# Altium footprint library Components.PcbLib: 86 footprints (part 4 of 6)
Each footprint in its own frame and in the unit in brackets; x right, y up, seen from the top. Pads: shape width x height; smd on the part's side, far side on the other; paste and mask are expansions set on the pad; w line width, h text height; cw(c..) or ccw(c..) is an arc to the next point about the centre after c.
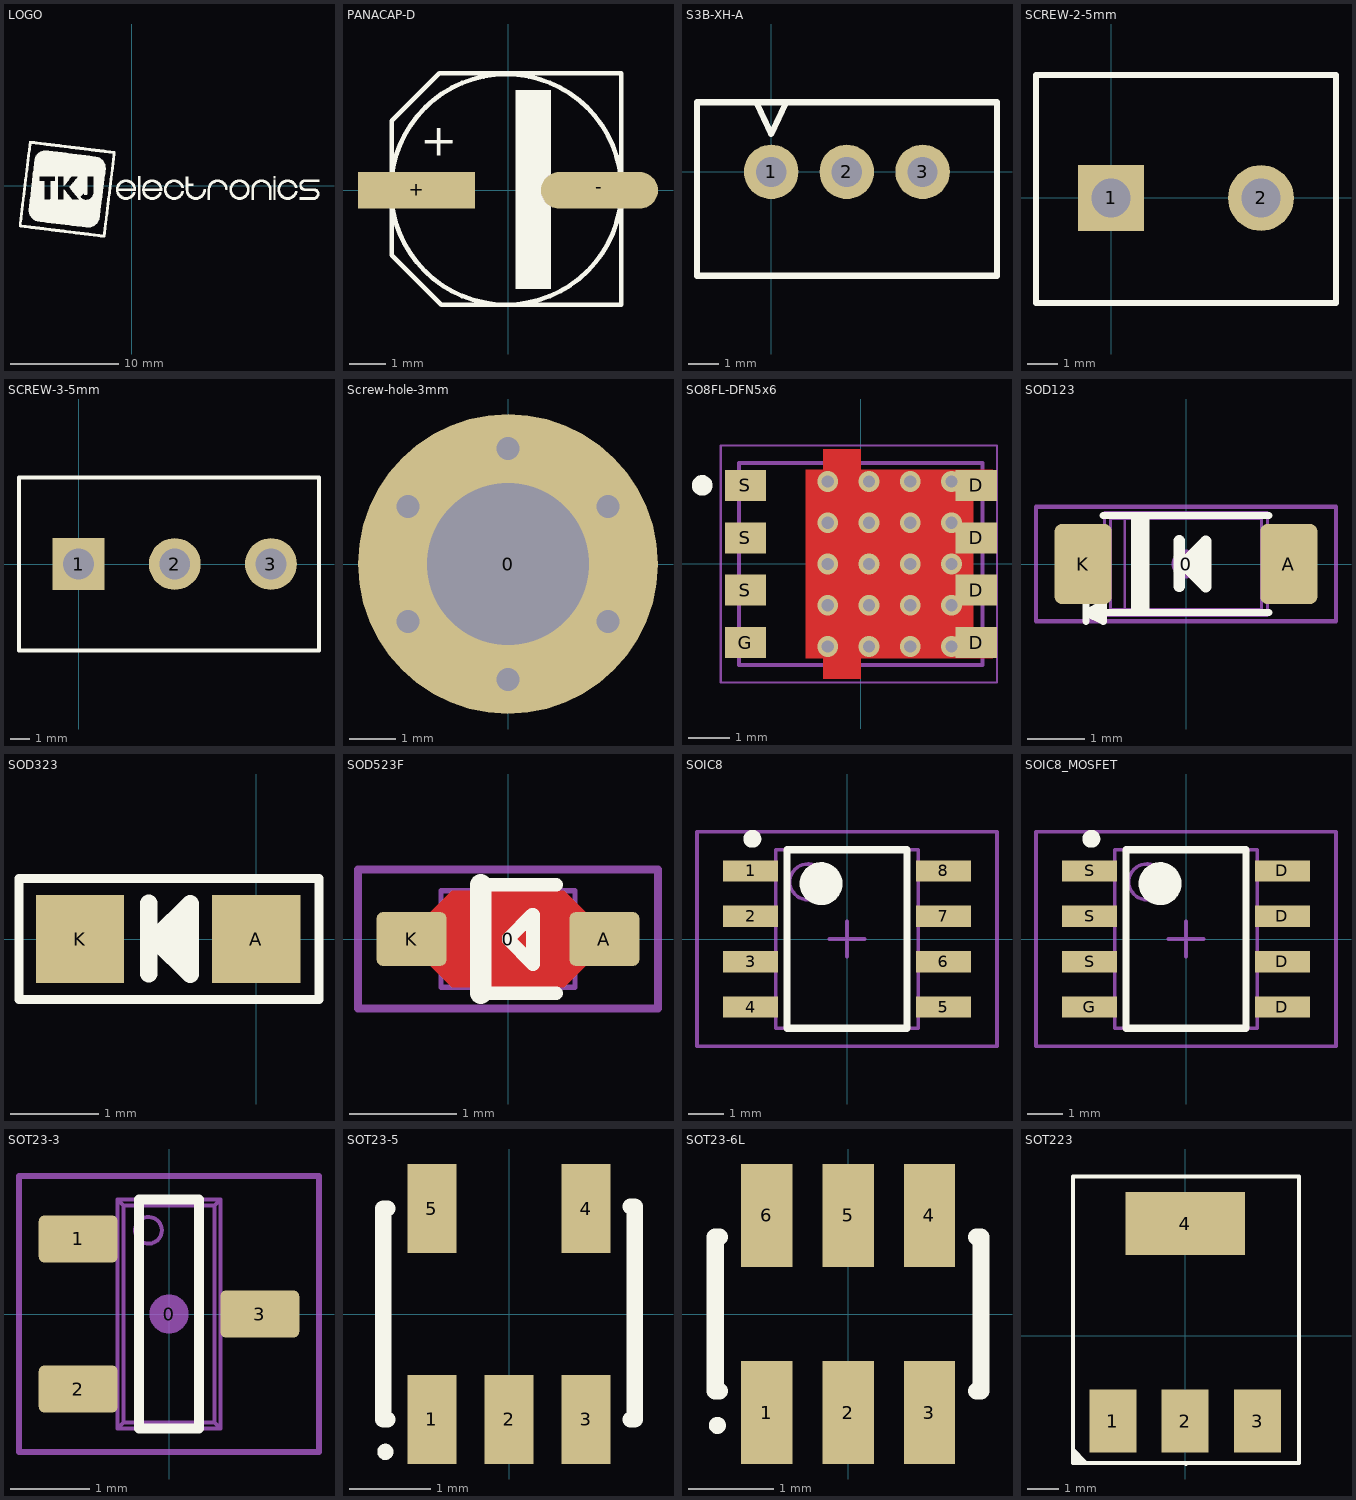
[diagram p3: the footprints below, top view; thin cyan lines are the x and y axes]

## LOGO [mm]
Top Overlay:
  drawing of 2458 lines, arcs and shapes, not listed

## PANACAP-D [mm]
pads (2):
  rect 3.2x1 smd: +(-2.5,0)
  oval 3.2x1 smd: -(2.5,0)
Top Overlay:
  circle w0.127: c-0.05,0.025 r3.15
  rectangle: 0.2,-2.7 1.175,2.75
  lines w0.127: -3.175,-1.775 -3.175,1.9 -1.875,3.2 3.1,3.2 3.1,-3.125 -0.05,-3.125 -1.825,-3.125 -3.175,-1.775
  text "+" at -2.4,0.95 h0.89
3D body: height 0.25, standoff 0, extent -3.85,-0.242 -2.349,0.266
3D body: height 0.38, standoff 0.05, extent -3.225,-3.1 3.095,3.225
3D body: height 0.25, standoff 0, extent 2.147,-0.242 3.75,0.266
3D body: height 5.61, standoff 0.03, extent 1.397,-2.172 2.54,2.209
3D body: height 5.59, standoff 0, extent -3.2,-3.088 3.075,3.2

## S3B-XH-A [mm]
pads (3):
  round 1.8 hole 1: 1(0,0) 2(2.5,0) 3(5,0)
Top Overlay:
  lines w0.2: -0.5,2.3 0,1.25 0.5,2.3 ; -2.45,-3.429 7.458,-3.429 7.458,2.3 -2.45,2.3 -2.45,-3.429
3D body: height 7, standoff -3.4, extent -2.407,-3.429 7.493,2.321

## SCREW-2-5mm [mm]
pads (2):
  rect 2.2x2.2 hole 1.3: 1(0,0)
  round 2.2 hole 1.3: 2(5,0)
Top Overlay:
  lines w0.203: -2.5,-3.5 7.5,-3.5 7.5,4.1 -2.5,4.1 -2.5,-3.5
3D body: height 9.8, standoff -3.9, extent -2.5,-3.1 7.5,4.5

## SCREW-3-5mm [mm]
pads (3):
  rect 2.7x2.7 hole 1.6: 1(0,0)
  round 2.7 hole 1.6: 2(5,0) 3(10,0)
Top Overlay:
  lines w0.203: -3.1,-4.5 12.5,-4.5 12.5,4.5 -3.1,4.5 -3.1,-4.5
3D body: height 14.1, standoff -3.5, extent -2.8,-5.2 12.5,5

## Screw-hole-3mm [mm] "M3 screw"
pads (1):
  round 6.5 hole 3.5 mask+0: 0(0,0)
via -2.165,1.25 diameter 1 hole 0.5
via -2.165,-1.25 diameter 1 hole 0.5
via 0,-2.5 diameter 1 hole 0.5
via 2.165,-1.25 diameter 1 hole 0.5
via 2.165,1.25 diameter 1 hole 0.5
via 0,2.5 diameter 1 hole 0.5

## SO8FL-DFN5x6 [mm] "DFN, 5-Leads, Body 5.9x4.9mm, Pitch 1.27mm"
height 1.1
pads (8):
  rect 1x0.75 smd: D(2.795,-1.905) D(2.795,-0.635) D(2.795,0.635) D(2.795,1.905) G(-2.795,-1.905) S(-2.795,-0.635) S(-2.795,0.635) S(-2.795,1.905)
via 2.198,0 diameter 0.5 hole 0.3
via 2.198,1 diameter 0.5 hole 0.3
via 2.198,2 diameter 0.5 hole 0.3
via 2.198,-2 diameter 0.5 hole 0.3
via 2.198,-1 diameter 0.5 hole 0.3
via -0.803,0 diameter 0.5 hole 0.3
via -0.803,2 diameter 0.5 hole 0.3
via -0.803,-1 diameter 0.5 hole 0.3
via -0.803,-2 diameter 0.5 hole 0.3
via -0.803,1 diameter 0.5 hole 0.3
via 1.198,-1 diameter 0.5 hole 0.3
via 1.198,-2 diameter 0.5 hole 0.3
via 1.198,2 diameter 0.5 hole 0.3
via 1.198,1 diameter 0.5 hole 0.3
via 1.198,0 diameter 0.5 hole 0.3
via 0.198,1 diameter 0.5 hole 0.3
via 0.198,-2 diameter 0.5 hole 0.3
via 0.198,-1 diameter 0.5 hole 0.3
via 0.198,2 diameter 0.5 hole 0.3
via 0.198,0 diameter 0.5 hole 0.3
Top Layer:
  region: -0.905,-2.775 -0.905,-2.28 -1.33,-2.28 -1.33,2.28 -0.905,2.28 -0.905,2.775 0,2.775 0,2.28 3.2,2.28 3.2,1.53 2.725,1.53 2.725,-1.53 3.2,-1.53 3.2,-2.28 0,-2.28 0,-2.775
Top Overlay:
  circle w0.25: c-3.845,1.905 r0.125
Mechanical 13:
  lines w0.1: -2.95,-2.45 2.95,-2.45 2.95,2.45 -2.95,2.45 -2.95,-2.45
Mechanical 15:
  lines w0.05: -3.395,-2.875 -3.395,2.875 3.3,2.875 3.3,-2.875 -3.395,-2.875
  lines w0.1: -0.5,0 0.5,0 ; 0,-0.5 0,0.5
3D body: height 1.1, standoff 0, extent -2.95,-2.45 2.95,2.45

## SOD123 [mm] "SOD-123; 2 Leads; Body 2.7 x 1.6 mm, (LxW)"
height 1.35
pads (3):
  round 0.508 on Mech15: 0(0,0)
  rrect25% 1x1.4 smd: A(1.8,0) K(-1.8,0)
Top Overlay:
  lines w0.127: -1.75,-1 -1.75,-0.7 ; -1.45,0.85 1.45,0.85 ; -0.9,-0.85 -0.9,0.85 ; -0.8,-0.85 -0.8,0.85 ; -0.7,-0.85 -0.7,0.85 ; 1.448,-0.85 -1.45,-0.85 -1.75,-0.85 ; -1.75,-0.85 -1.45,-0.7 -1.45,-1 -1.75,-0.85
  lines w0.2: -0.119,-0.394 -0.119,0.406 ; 0.149,-0.2 0.149,0.2 ; -0.051,0 0.349,0.4 0.349,-0.4 -0.051,0
Mechanical 13:
  lines w0.05: -1.766,-0.308 -1.766,0.308 ; -1.707,-0.308 -1.707,0.308 ; -1.517,-0.308 -1.517,0.308 ; -1.425,-0.308 -1.95,-0.308 -1.95,0.308 -1.425,0.308 ; 1.425,-0.308 1.95,-0.308 1.95,0.308 1.425,0.308 ; 1.517,-0.308 1.517,0.308 ; 1.707,-0.308 1.707,0.308 ; 1.766,-0.308 1.766,0.308 ; -1.425,-0.9 -1.425,0.9 ; -1.425,-0.9 -1.323,-0.798 ; -1.425,-0.9 1.425,-0.9 ; -1.425,0.9 1.425,0.9 ; -1.425,0.9 -1.323,0.798 ; -1.323,-0.798 -1.323,0.798 ; -1.323,-0.798 -1.072,-0.798 ; -1.323,0.798 -1.072,0.798 ; -1.072,-0.798 -1.072,0.798 ; -1.072,-0.798 1.322,-0.797 ; -1.072,0.798 1.322,0.797 ; 1.322,-0.797 1.425,-0.9 ; 1.322,-0.797 1.322,0.797 ; 1.322,0.797 1.425,0.9 ; 1.425,-0.9 1.425,0.9
Mechanical 15:
  lines w0.076: -2.625,-1 -2.625,1 2.625,1 2.625,-1 -2.625,-1
3D body: height 1.18, standoff 0, extent -1.95,-0.9 1.95,0.9

## SOD323 [mm]
pads (2):
  rect 1x1 smd: A(0,0) K(-2,0)
Top Overlay:
  lines w0.102: -2.692,-0.686 0.711,-0.686 0.711,0.686 -2.692,0.686 -2.692,-0.686
  lines w0.2: -1.219,-0.394 -1.219,0.406 ; -0.951,-0.2 -0.951,0.2 ; -1.151,0 -0.751,-0.4 -0.751,0.4 -1.151,0
3D body: height 0.25, standoff 0, extent -0.175,-0.2 0.175,0.15
3D body: height 0.25, standoff 0, extent -2.225,-0.175 -1.875,0.175
3D body: height 0.69, standoff 0, extent -2.025,-0.65 0,0.65
3D body: height 0.74, standoff 0.71, extent -1.9,-0.475 -1.725,0.5

## SOD523F [mm] "SOD-523F; 2 Leads; Body 1.3 x 0.9 mm, (LxW)"
height 0.7
pads (3):
  round 0.508 on Mech15: 0(0,0)
  rrect20% 0.65x0.5 smd: A(0.9,0) K(-0.9,0)
Top Layer:
  pour cut-out: -0.725,-0.25 -0.725,0.25 -0.525,0.45 0.525,0.45 0.725,0.25 0.725,-0.25 0.525,-0.45 -0.525,-0.45
Top Overlay:
  lines w0.127: -0.254,-0.508 0.45,-0.508 ; -0.254,0.508 0.45,0.508 ; 0.008,-0.008 0.233,-0.233 0.233,0.225 ; 0.008,0.008 0.225,0.225
  lines w0.2: -0.254,-0.508 -0.254,0.508
Mechanical 13:
  lines w0.05: -0.625,-0.175 -0.625,0.175 ; -0.625,-0.175 -0.625,-0.45 0.625,-0.45 0.625,-0.175 ; -0.625,-0.175 -0.85,-0.175 -0.85,0.175 -0.625,0.175 ; -0.625,0.175 -0.625,0.45 0.625,0.45 0.625,0.175 ; 0.625,-0.175 0.625,0.175 ; 0.625,-0.175 0.85,-0.175 0.85,0.175 0.625,0.175
  lines w0.127: -0.425,-0.275 -0.425,0.275
Mechanical 15:
  lines w0.076: -1.4,-0.65 1.4,-0.65 1.4,0.65 -1.4,0.65 -1.4,-0.65
3D body: height 0.7, standoff 0, extent -0.85,-0.45 0.85,0.45

## SOIC8 [mm] "8-Pin Plastic Narrow Body Small Outline Integrated Circuit 1.27 mm Pitch, IPC Low Density"
height 1.76
pads (8):
  rect 1.55x0.6 smd: 1(-2.7,1.905) 2(-2.7,0.635) 3(-2.7,-0.635) 4(-2.7,-1.905) 5(2.7,-1.905) 6(2.7,-0.635) 7(2.7,0.635) 8(2.7,1.905)
Top Overlay:
  circle w0.25: c-2.65,2.805 r0.125
  circle w0.6: c-0.725,1.55 r0.3
  lines w0.2: -1.675,-2.5 -1.675,2.5 1.675,2.5 1.675,-2.5 -1.675,-2.5
Mechanical 13:
  circle w0.1: c-1.1,1.6 r0.5
  lines w0.1: -2,-2.5 -2,2.5 2,2.5 2,-2.5 -2,-2.5
Mechanical 15:
  lines w0.1: -0.5,0 0.5,0 ; 0,-0.5 0,0.5 ; -4.2,-3 -4.2,3 4.2,3 4.2,-3 -4.2,-3
3D body: height 1.76, standoff 0, extent -2,-2.5 2,2.5

## SOIC8_MOSFET [mm] "8-Pin Plastic Narrow Body Small Outline Integrated Circuit 1.27 mm Pitch, IPC Low Density"
height 1.76
pads (8):
  rect 1.55x0.6 smd: D(2.7,-1.905) D(2.7,-0.635) D(2.7,0.635) D(2.7,1.905) G(-2.7,-1.905) S(-2.7,-0.635) S(-2.7,0.635) S(-2.7,1.905)
Top Overlay:
  circle w0.25: c-2.65,2.805 r0.125
  circle w0.6: c-0.725,1.55 r0.3
  lines w0.2: -1.675,-2.5 -1.675,2.5 1.675,2.5 1.675,-2.5 -1.675,-2.5
Mechanical 13:
  circle w0.1: c-1.1,1.6 r0.5
  lines w0.1: -2,-2.5 -2,2.5 2,2.5 2,-2.5 -2,-2.5
Mechanical 15:
  lines w0.1: -0.5,0 0.5,0 ; 0,-0.5 0,0.5 ; -4.2,-3 -4.2,3 4.2,3 4.2,-3 -4.2,-3
3D body: height 1.76, standoff 0, extent -2,-2.5 2,2.5

## SOT23-3 [mm] "SOT23, 3 pin"
height 1.003
pads (4):
  round 0.5 on Mech15: 0(0,0)
  rrect25% 1x0.6 smd: 1(-1.15,0.95) 2(-1.15,-0.95) 3(1.15,0)
Top Overlay:
  lines w0.127: -0.381,-1.45 -0.381,1.45 0.381,1.45 0.381,-1.45 -0.381,-1.45
  text "." at -2.125,0.95 h0.1
Mechanical 13:
  circle w0.05: c-0.26,1.06 r0.169
  lines w0.05: -1.19,-1.19 -1.19,-0.71 ; -1.19,0.71 -1.19,1.19 ; -1.099,-1.19 -1.099,-0.71 ; -1.099,0.71 -1.099,1.19 ; -1.074,-1.19 -1.074,-0.71 ; -1.074,0.71 -1.074,1.19 ; -0.825,-1.19 -0.825,-0.71 ; -0.825,0.71 -0.825,1.19 ; -0.65,-1.19 -1.4,-1.19 -1.4,-0.71 -0.65,-0.71 ; -0.65,0.71 -1.4,0.71 -1.4,1.19 -0.65,1.19 ; 0.65,-0.24 1.4,-0.24 1.4,0.24 0.65,0.24 ; 0.825,-0.24 0.825,0.24 ; 1.074,-0.24 1.074,0.24 ; 1.099,-0.24 1.099,0.24 ; 1.19,-0.24 1.19,0.24 ; -0.65,-1.45 0.65,-1.45 ; -0.65,-1.45 -0.65,1.45 ; -0.65,-1.45 -0.576,-1.376 ; -0.65,1.45 -0.576,1.376 ; -0.65,1.45 0.65,1.45 ; -0.576,-1.376 0.576,-1.376 ; -0.576,-1.376 -0.576,1.376 ; -0.576,1.376 0.576,1.376 ; 0.576,-1.376 0.65,-1.45 ; 0.576,-1.376 0.576,1.376 ; 0.576,1.376 0.65,1.45 ; 0.65,-1.45 0.65,1.45
Mechanical 15:
  lines w0.076: -1.9,-1.75 -1.9,1.75 1.9,1.75 1.9,-1.75 -1.9,-1.75
3D body: height 1.29, standoff -0.01, extent -1.4,-1.45 1.4,1.45

## SOT23-5 [mm] "SOT-23/SC-74A; 5 Leads; Body 3 x 3 mm, inc. leads (LxW max)"
height 1.45
pads (5):
  rect 0.6x1.1 smd: 1(-0.95,-1.3) 2(0,-1.3) 3(0.95,-1.3) 4(0.95,1.3) 5(-0.95,1.3)
Top Overlay:
  circle w0.1: c-1.525,-1.7 r0.05
  lines w0.2: -1.5,-1.3 -1.55,-1.3 -1.55,1.3 -1.5,1.3 ; 1.5,-1.3 1.55,-1.3 1.55,1.325 1.5,1.325

## SOT23-6L [mm] "SOT-457/SC-74; 6 Leads; Body 3.1 x 3 mm, inc. leads (LxW max)"
height 1.45
pads (6):
  rect 0.6x1.2 smd: 1(-0.95,-1.15) 2(0,-1.15) 3(0.95,-1.15) 4(0.95,1.15) 5(0,1.15) 6(-0.95,1.15)
Top Overlay:
  circle w0.1: c-1.525,-1.3 r0.05
  lines w0.2: -1.5,-0.9 -1.55,-0.9 -1.55,0.9 -1.5,0.9 ; 1.5,-0.9 1.55,-0.9 1.55,0.9 1.5,0.9

## SOT223 [mil]
pads (4):
  rect 59x79 smd: 1(-91,-107) 2(0,-107) 3(91,-107)
  rect 150x79 smd: 4(0,141)
Top Overlay:
  lines w5: -141,-143 -125,-159 -129,-159 -130,-159 -141,-148 -141,-153 -135,-159 -134,-159 ; 0,200 143,200 143,-160 1,-160 ; 2,200 -141,200 -141,-160 1,-160 ; 1,-160 1,-161 1,-160
3D body: height 8.66, standoff 0, extent 71,-105 111,-81
3D body: height 24.41, standoff 0, extent 71,-81 111,-72
3D body: height 24.41, standoff 15.75, extent 71,-72 111,-55
3D body: height 8.66, standoff 0, extent -20,-105 20,-81
3D body: height 24.41, standoff 0, extent -20,-81 20,-72
3D body: height 24.41, standoff 15.75, extent -20,-72 20,-55
3D body: height 24.41, standoff 15.75, extent -110,-72 -70,-55
3D body: height 24.41, standoff 0, extent -110,-81 -70,-72
3D body: height 8.66, standoff 0, extent -110,-105 -70,-81
3D body: height 20, standoff 0, extent -70,114 70,162
3D body: height 51, standoff 50, extent -124,-47.98 -104.08,-28.02
3D body: height 50, standoff 0, extent -131,-55 135,114